# Altium footprint library SOIC8P127_490X600X175L83X24N.PcbLib: 1 footprints
Each footprint in its own frame and in the unit in brackets; x right, y up, seen from the top. Pads: shape width x height; smd on the part's side, far side on the other; paste and mask are expansions set on the pad; w line width, h text height; cw(c..) or ccw(c..) is an arc to the next point about the centre after c.
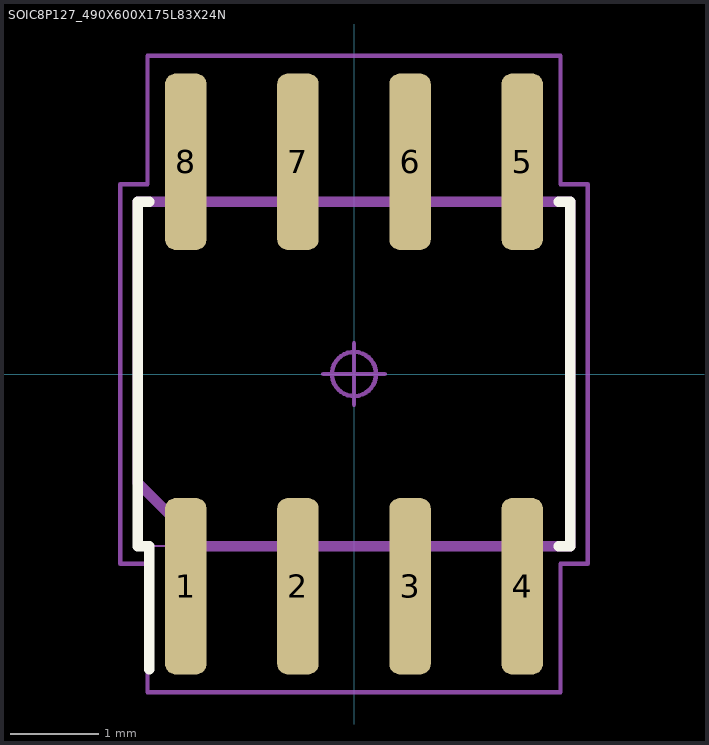
[diagram p0: the footprint, top view; thin cyan lines are the x and y axes]

## SOIC8P127_490X600X175L83X24N [mm] "Small Outline IC (SOIC), 1.27 mm pitch; 8 pin, 4.90 mm L X 3.90 mm W X 1.75 mm H body"
height 1.75
pads (8):
  rrect51% 0.47x2 smd: 1(-1.905,-2.405) 2(-0.635,-2.405) 3(0.635,-2.405) 4(1.905,-2.405) 5(1.905,2.405) 6(0.635,2.405) 7(-0.635,2.405) 8(-1.905,2.405)
Top Overlay:
  lines w0.12: -2.32,-3.345 -2.32,-1.95 -2.45,-1.95 -2.45,1.95 -2.32,1.95 ; 2.32,-1.95 2.45,-1.95 2.45,1.95 2.32,1.95
Mechanical 3:
  lines w0.12: -2.45,-1.233 -1.733,-1.95 2.45,-1.95 2.45,1.95 -2.45,1.95 -2.45,-1.233
Mechanical 5:
  lines w0.025: -2.45,-1.95 -2.45,1.95 2.45,1.95 2.45,-1.95 -2.45,-1.95 ; -2.027,-3 -1.783,-3 -1.783,-2.165 -2.027,-2.165 -2.027,-3 ; -2.027,2.165 -1.783,2.165 -1.783,3 -2.027,3 -2.027,2.165 ; -0.757,-3 -0.513,-3 -0.513,-2.165 -0.757,-2.165 -0.757,-3 ; -0.757,2.165 -0.513,2.165 -0.513,3 -0.757,3 -0.757,2.165 ; 0.513,-3 0.757,-3 0.757,-2.165 0.513,-2.165 0.513,-3 ; 0.513,2.165 0.757,2.165 0.757,3 0.513,3 0.513,2.165 ; 1.783,-3 2.027,-3 2.027,-2.165 1.783,-2.165 1.783,-3 ; 1.783,2.165 2.027,2.165 2.027,3 1.783,3 1.783,2.165
Mechanical 7:
  circle w0.05: c0,0 r0.25
  lines w0.05: -0.35,0 0.35,0 ; 0,-0.35 0,0.35 ; -2.65,-2.15 -2.65,2.15 -2.34,2.15 -2.34,3.605 2.34,3.605 2.34,2.15 2.65,2.15 2.65,-2.15 2.34,-2.15 2.34,-3.605 -2.34,-3.605 -2.34,-2.15 -2.65,-2.15
Mechanical 9:
  text "'.Designator'" at -5.969,-0.254 h1
3D body "SOIC8P127_490X600X175L83X24.STEP": height 1.75, standoff 0, extent -2.45,-3 2.45,3
3D body: height 1.04, standoff 0, extent -2.65,-3.605 2.65,3.605